# Altium schematic symbol library TVSESD112B102ELE6327XTMA1.SchLib: 1 symbol
Pins are listed as number, name and electrical type; pins without a type are passive.

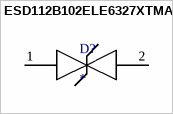
[diagram p0: symbol ESD112B102ELE6327XTMA1]

## ESD112B102ELE6327XTMA1
designator D?
TVS RF PLUTO
footprint Model Name (Footprint not found)
footprint DIODFN100X60X43-2N
pins: 1, 2